# EAGLE library part MLX90393_MAGNETOMETER (library SparkFun-Sensors)
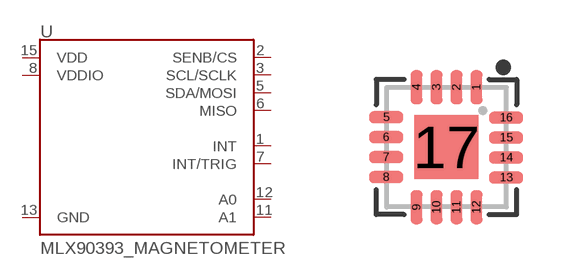
[diagram p44: symbol with the pads of QFN-16_WITH_AXIES; footprint QFN-16_WITH_AXIES]

Designator prefix -

## MLX90393_MAGNETOMETER (PROD_ID: SEN-13886)  [QFN-16_WITH_AXIES]
1  INT
2  SENB/CS
3  SCL/SCLK
5  SDA/MOSI
6  MISO
7  INT/TRIG
8  VDDIO
11  A1
12  A0
13  GND
15  VDD

## Footprint QFN-16_WITH_AXIES (pad centres in mm)
QFN-16 - 3.0mm x 3.0mm package for the MLX90393 Specifications: Pin count: 16 Pin pitch: .5mm Area: 3.0mm x 3.0mm Datasheet referenced for footprint <file:///C:/Users/andrew.england/Downloads/MLX90393-Datasheet-Melexis%20(1).pdf>
smd 0.3 x 0.85: 1 0.754,1.498; 2 0.254,1.498; 3 -0.246,1.498; 4 -0.746,1.498; 9 -0.746,-1.506; 10 -0.246,-1.506; 11 0.254,-1.506; 12 0.754,-1.506
smd 0.85 x 0.3: 5 -1.508,0.746; 6 -1.508,0.246; 7 -1.508,-0.254; 8 -1.508,-0.754; 13 1.496,-0.764; 14 1.496,-0.264; 15 1.496,0.236; 16 1.496,0.736
smd 1.6 x 1.6: 17 0,0